# EAGLE library part A4988X (library Pololu)
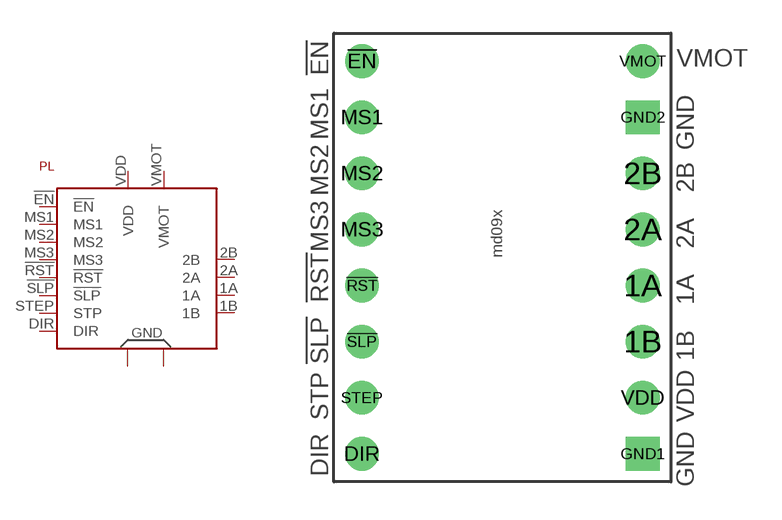
[diagram p0: symbol with the pads of MD09X; footprint MD09X]

Designator prefix PL

## A4988X  [MD09X]
1A  1A
1B  1B
2A  2A
2B  2B
!EN  !EN
!RST  !RST
!SLP  !SLP
DIR  DIR
GND1  GND1
GND2  GND2
MS1  MS1
MS2  MS2
MS3  MS3
STEP  STP
VDD  VDD
VMOT  VMOT

## Footprint MD09X (pad centres in mm)
drill 1.016: 1A 6.35,-1.27; 1B 6.35,-3.81; 2A 6.35,1.27; 2B 6.35,3.81; !EN -6.35,8.89; !RST -6.35,-1.27; !SLP -6.35,-3.81; DIR -6.35,-8.89; MS1 -6.35,6.35; MS2 -6.35,3.81; MS3 -6.35,1.27; STEP -6.35,-6.35; VDD 6.35,-6.35; VMOT 6.35,8.89
drill 1.016 square: GND1 6.35,-8.89; GND2 6.35,6.35